# Altium footprint library Connector.PcbLib: 3 footprints
Each footprint in its own frame and in the unit in brackets; x right, y up, seen from the top. Pads: shape width x height; smd on the part's side, far side on the other; paste and mask are expansions set on the pad; w line width, h text height; cw(c..) or ccw(c..) is an arc to the next point about the centre after c.
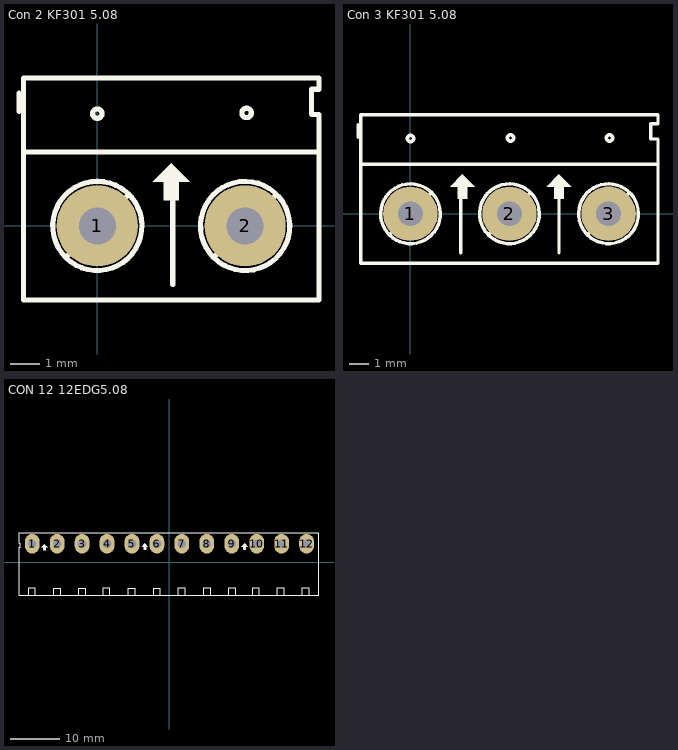
[diagram p0: the footprints below, top view; thin cyan lines are the x and y axes]

## Con 2 KF301 5.08 [mil]
pads (2):
  round 110 hole 50: 1(0,0) 2(200,0)
Top Overlay:
  circle w7: c0,152 r6.4
  circle w7: c202,153 r6.4
  region: 100,85 75,60 90,60 90,35 110,35 110,60 125,60
  lines w7: -106,155 -106,180 ; -100,100 300,100 ; -42,-42 43,43 ; 39.04,46.05 ccw(c0,0) 45.18,40.05 ; 102,-79 102,72 ; 158,-42 242.5,42.5 ; 239.76,45.44 ccw(c200,0) 245.18,40.05 ; 290,182 290,151 300,151 300,-100 -100,-100 -100,50 -100,200 300,200 300,185 290,185 ; 300,-79 300,40
3D body "tb5p-2p_p5_l10_w7-6_h10.STEP": height 394.49, standoff -160.63, extent -118.66,-119.21 298.66,180

## Con 3 KF301 5.08 [mil]
pads (3):
  round 110 hole 50: 1(0,0) 2(200,0) 3(400.06,0.06)
Top Overlay:
  circle w7: c202,153 r6.4
  circle w7: c0,152 r6.4
  circle w7: c402,153 r6.4
  region: 300,80 275,55 290,55 290,30 310,30 310,55 325,55
  region: 105,80 80,55 95,55 95,30 115,30 115,55 130,55
  lines w7: -106,155 -106,180 ; -100,100 495,100 ; -42,-42 43,43 ; 39.04,46.05 ccw(c0,0) 45.18,40.05 ; 102,-79 102,72 ; 158,-42 242.5,42.5 ; 239.76,45.44 ccw(c200,0) 245.18,40.05 ; 300,-79 300,40 ; 358.5,-41.5 442.5,42.5 ; 439.27,45.97 ccw(c400.06,0.06) 445.19,40.17 ; -100,-100 -100,50 -100,200 500,200 500,182 485,182 485,151 500,151 500,-100 -100,-100
3D body "tb5p-3p_p5_l15_w7-6_h10.STEP": height 394.49, standoff -160.63, extent -118.9,-122.05 495.28,177.16

## CON 12 12EDG5.08 [mm]
pads (12):
  oval 3x4 hole 1.778: 1(-27.94,3.81) 2(-22.86,3.81) 3(-17.78,3.81) 4(-12.7,3.81) 5(-7.62,3.81) 6(-2.54,3.81) 7(2.54,3.81) 8(7.62,3.81) 9(12.705,3.81) 10(17.79,3.81) 11(22.87,3.81) 12(27.95,3.81)
Top Overlay:
  region: -25.451,3.734 -24.816,3.099 -25.197,3.099 -25.197,2.464 -25.705,2.464 -25.705,3.099 -26.086,3.099
  region: -5.004,3.861 -4.369,3.226 -4.75,3.226 -4.75,2.591 -5.258,2.591 -5.258,3.226 -5.639,3.226
  region: 15.316,3.861 15.951,3.226 15.57,3.226 15.57,2.591 15.062,2.591 15.062,3.226 14.681,3.226
  lines w0.178: -28.677,-6.579 -28.677,-5.182 -27.28,-5.182 -27.28,-6.579 ; -23.52,-6.68 -23.52,-5.283 -22.123,-5.283 -22.123,-6.68 ; -18.466,-6.68 -18.466,-5.283 -17.069,-5.283 -17.069,-6.68 ; -13.513,-6.604 -13.513,-5.207 -12.116,-5.207 -12.116,-6.604 ; -8.382,-6.655 -8.382,-5.258 -6.985,-5.258 -6.985,-6.655 ; -3.226,-6.655 -3.226,-5.258 -1.829,-5.258 -1.829,-6.655 ; 1.829,-6.553 1.829,-5.156 3.226,-5.156 3.226,-6.553 ; 7.036,-6.579 7.036,-5.182 8.433,-5.182 8.433,-6.579 ; 12.116,-6.579 12.116,-5.182 13.513,-5.182 13.513,-6.579 ; 16.942,-6.579 16.942,-5.182 18.339,-5.182 18.339,-6.579 ; 22.022,-6.579 22.022,-5.182 23.419,-5.182 23.419,-6.579 ; 27.102,-6.579 27.102,-5.182 28.499,-5.182 28.499,-6.579 ; 30.48,2.794 30.48,3.556 ; -30.632,3.861 -30.328,3.861 -30.328,3.099 -30.607,3.099 -30.607,-6.68 30.48,-6.68 30.48,6.02 -30.632,6.02 -30.632,3.861
3D body "User Library-BigHeader 5EHDR_1P.step": height 3.24, standoff -9.23, extent -30.48,-6.508 -25.48,5.492
3D body "User Library-BigHeader 5EHDR_1P.step": height 3.24, standoff -9.23, extent -25.4,-6.508 -20.4,5.492
3D body "User Library-BigHeader 5EHDR_1P.step": height 3.24, standoff -9.23, extent -20.32,-6.508 -15.32,5.492
3D body "User Library-BigHeader 5EHDR_1P.step": height 3.24, standoff -9.23, extent -15.24,-6.508 -10.24,5.492
3D body "User Library-BigHeader 5EHDR_1P.step": height 3.24, standoff -9.23, extent -10.16,-6.508 -5.16,5.492
3D body "User Library-BigHeader 5EHDR_1P.step": height 3.24, standoff -9.23, extent -5.08,-6.508 -0.08,5.492
3D body "User Library-BigHeader 5EHDR_1P.step": height 3.24, standoff -9.23, extent 0,-6.508 5,5.492
3D body "User Library-BigHeader 5EHDR_1P.step": height 3.24, standoff -9.23, extent 5.08,-6.508 10.08,5.492
3D body "User Library-BigHeader 5EHDR_1P.step": height 3.24, standoff -9.23, extent 10.16,-6.508 15.16,5.492
3D body "User Library-BigHeader 5EHDR_1P.step": height 3.24, standoff -9.23, extent 15.24,-6.508 20.24,5.492
3D body "User Library-BigHeader 5EHDR_1P.step": height 3.24, standoff -9.23, extent 20.32,-6.483 25.32,5.517
3D body "User Library-BigHeader 5EHDR_1P.step": height 3.24, standoff -9.23, extent 25.4,-6.483 30.4,5.517